# Altium footprint library NSC Audio.PcbLib: 147 footprints (part 8 of 10)
Each footprint in its own frame and in the unit in brackets; x right, y up, seen from the top. Pads: shape width x height; smd on the part's side, far side on the other; paste and mask are expansions set on the pad; w line width, h text height; cw(c..) or ccw(c..) is an arc to the next point about the centre after c.
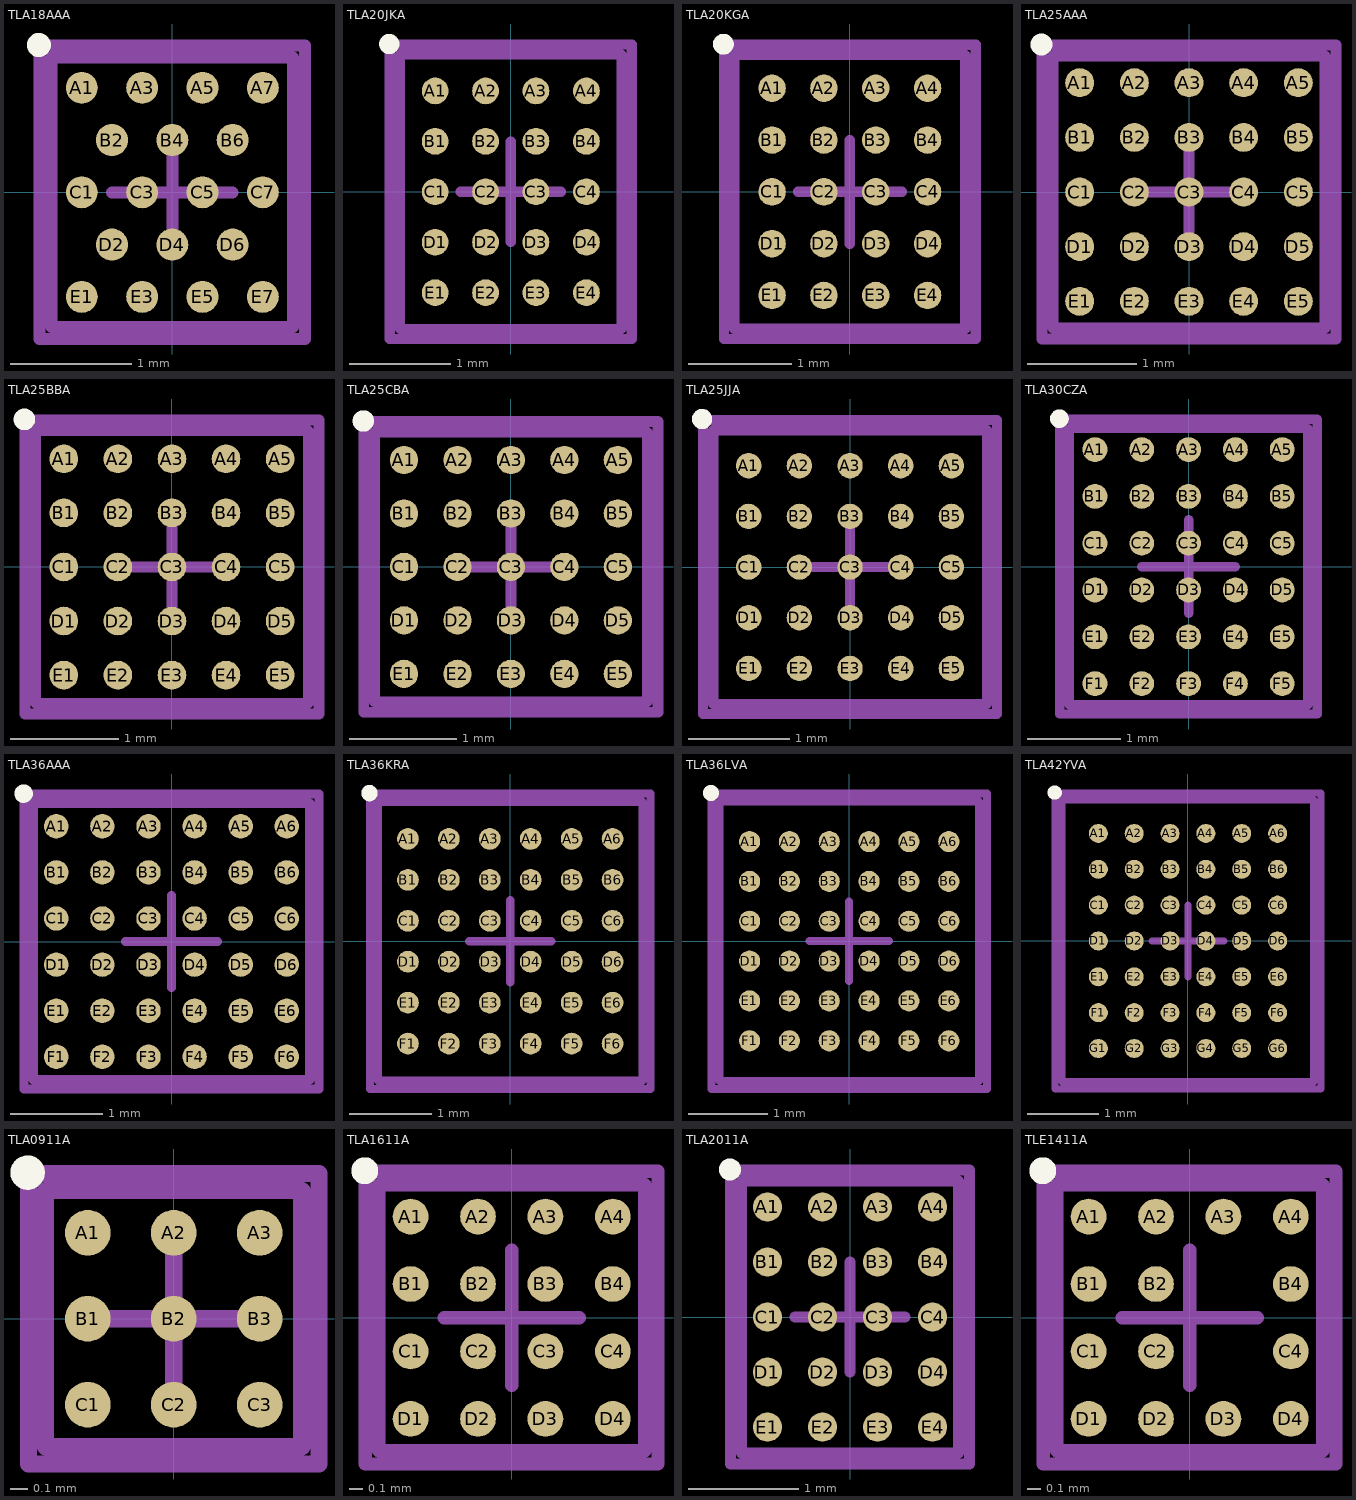
[diagram p7: the footprints below, top view; thin cyan lines are the x and y axes]

## TLA18AAA [mm] "Micro SMD, 18-Leads, Body 2.23x2.0mm, Pitch 0.5mm, NSC Recommended"
height 0.68
pads (18):
  round 0.265 smd paste-0.132 mask+0.05: A1(-0.75,0.866) A3(-0.25,0.866) A5(0.25,0.866) A7(0.75,0.866) B2(-0.5,0.433) B4(0,0.433) B6(0.5,0.433) C1(-0.75,0) C3(-0.25,0) C5(0.25,0) C7(0.75,0) D2(-0.5,-0.433) D4(0,-0.433) D6(0.5,-0.433) E1(-0.75,-0.866) E3(-0.25,-0.866) E5(0.25,-0.866) E7(0.75,-0.866)
Top Overlay:
  circle w0.1: c-1.105,1.22 r0.05
Top Paste:
  drawing of 162 lines, arcs and shapes, not listed
Mechanical 13:
  lines w0.1: -1,-1.115 -1,1.115 1,1.115 1,-1.115 -1,-1.115
Mechanical 15:
  lines w0.1: -0.5,0 0.5,0 ; 0,-0.5 0,0.5 ; -1.1,-1.215 -1.1,1.215 1.1,1.215 1.1,-1.215 -1.1,-1.215
3D body: height 0.68, standoff 0, extent -0.999,-1.114 0.999,1.114

## TLA20JKA [mm] "Micro SMD, 20-Leads, Body 2.72x2.2mm, Pitch 0.5mm, NSC Recommended"
height 0.68
pads (20):
  round 0.265 smd paste-0.132 mask+0.05: A1(-0.75,1) A2(-0.25,1) A3(0.25,1) A4(0.75,1) B1(-0.75,0.5) B2(-0.25,0.5) B3(0.25,0.5) B4(0.75,0.5) C1(-0.75,0) C2(-0.25,0) C3(0.25,0) C4(0.75,0) D1(-0.75,-0.5) D2(-0.25,-0.5) D3(0.25,-0.5) D4(0.75,-0.5) E1(-0.75,-1) E2(-0.25,-1) E3(0.25,-1) E4(0.75,-1)
Top Overlay:
  circle w0.1: c-1.205,1.465 r0.05
Top Paste:
  drawing of 180 lines, arcs and shapes, not listed
Mechanical 13:
  lines w0.1: -1.1,-1.36 -1.1,1.36 1.1,1.36 1.1,-1.36 -1.1,-1.36
Mechanical 15:
  lines w0.1: -0.5,0 0.5,0 ; 0,-0.5 0,0.5 ; -1.2,-1.46 -1.2,1.46 1.2,1.46 1.2,-1.46 -1.2,-1.46
3D body: height 0.68, standoff 0, extent -1.099,-1.359 1.099,1.359

## TLA20KGA [mm] "Micro SMD, 20-Leads, Body 2.64x2.23mm, Pitch 0.5mm, NSC Recommended"
height 0.68
pads (20):
  round 0.265 smd paste-0.132 mask+0.05: A1(-0.75,1) A2(-0.25,1) A3(0.25,1) A4(0.75,1) B1(-0.75,0.5) B2(-0.25,0.5) B3(0.25,0.5) B4(0.75,0.5) C1(-0.75,0) C2(-0.25,0) C3(0.25,0) C4(0.75,0) D1(-0.75,-0.5) D2(-0.25,-0.5) D3(0.25,-0.5) D4(0.75,-0.5) E1(-0.75,-1) E2(-0.25,-1) E3(0.25,-1) E4(0.75,-1)
Top Overlay:
  circle w0.1: c-1.22,1.425 r0.05
Top Paste:
  drawing of 180 lines, arcs and shapes, not listed
Mechanical 13:
  lines w0.1: -1.115,-1.32 1.115,-1.32 1.115,1.32 -1.115,1.32 -1.115,-1.32
Mechanical 15:
  lines w0.1: -0.5,0 0.5,0 ; 0,-0.5 0,0.5 ; -1.215,-1.42 1.215,-1.42 1.215,1.42 -1.215,1.42 -1.215,-1.42
3D body: height 0.68, standoff 0, extent -1.115,-1.325 1.115,1.325

## TLA25AAA [mm] "Micro SMD, 25-Leads, Body 2.49x2.49mm, Pitch 0.5mm, NSC Recommended"
height 0.68
pads (25):
  round 0.265 smd paste-0.132 mask+0.05: A1(-1,1) A2(-0.5,1) A3(0,1) A4(0.5,1) A5(1,1) B1(-1,0.5) B2(-0.5,0.5) B3(0,0.5) B4(0.5,0.5) B5(1,0.5) C1(-1,0) C2(-0.5,0) C3(0,0) C4(0.5,0) C5(1,0) D1(-1,-0.5) D2(-0.5,-0.5) D3(0,-0.5) D4(0.5,-0.5) D5(1,-0.5) E1(-1,-1) E2(-0.5,-1) E3(0,-1) E4(0.5,-1) E5(1,-1)
Top Overlay:
  circle w0.1: c-1.35,1.35 r0.05
Top Paste:
  drawing of 225 lines, arcs and shapes, not listed
Mechanical 13:
  lines w0.1: -1.245,-1.245 -1.245,1.245 1.245,1.245 1.245,-1.245 -1.245,-1.245
Mechanical 15:
  lines w0.1: -0.5,0 0.5,0 ; 0,-0.5 0,0.5 ; -1.345,-1.345 -1.345,1.345 1.345,1.345 1.345,-1.345 -1.345,-1.345
3D body: height 0.68, standoff 0, extent -1.244,-1.244 1.244,1.244

## TLA25BBA [mm] "Micro SMD, 25-Leads, Body 2.52x2.52mm, Pitch 0.5mm, NSC Recommended"
height 0.68
pads (25):
  round 0.265 smd paste-0.132 mask+0.05: A1(-1,1) A2(-0.5,1) A3(0,1) A4(0.5,1) A5(1,1) B1(-1,0.5) B2(-0.5,0.5) B3(0,0.5) B4(0.5,0.5) B5(1,0.5) C1(-1,0) C2(-0.5,0) C3(0,0) C4(0.5,0) C5(1,0) D1(-1,-0.5) D2(-0.5,-0.5) D3(0,-0.5) D4(0.5,-0.5) D5(1,-0.5) E1(-1,-1) E2(-0.5,-1) E3(0,-1) E4(0.5,-1) E5(1,-1)
Top Overlay:
  circle w0.1: c-1.365,1.365 r0.05
Top Paste:
  drawing of 225 lines, arcs and shapes, not listed
Mechanical 13:
  lines w0.1: -1.26,-1.26 1.26,-1.26 1.26,1.26 -1.26,1.26 -1.26,-1.26
Mechanical 15:
  lines w0.1: -0.5,0 0.5,0 ; 0,-0.5 0,0.5 ; -1.36,-1.36 1.36,-1.36 1.36,1.36 -1.36,1.36 -1.36,-1.36
3D body: height 0.68, standoff 0, extent -1.259,-1.259 1.259,1.259

## TLA25CBA [mm] "Micro SMD, 25-Leads, Body 2.52x2.55mm, Pitch 0.5mm, NSC Recommended"
height 0.68
pads (25):
  round 0.265 smd paste-0.132 mask+0.05: A1(-1,1) A2(-0.5,1) A3(0,1) A4(0.5,1) A5(1,1) B1(-1,0.5) B2(-0.5,0.5) B3(0,0.5) B4(0.5,0.5) B5(1,0.5) C1(-1,0) C2(-0.5,0) C3(0,0) C4(0.5,0) C5(1,0) D1(-1,-0.5) D2(-0.5,-0.5) D3(0,-0.5) D4(0.5,-0.5) D5(1,-0.5) E1(-1,-1) E2(-0.5,-1) E3(0,-1) E4(0.5,-1) E5(1,-1)
Top Overlay:
  circle w0.1: c-1.38,1.365 r0.05
Top Paste:
  drawing of 225 lines, arcs and shapes, not listed
Mechanical 13:
  lines w0.1: -1.275,-1.26 -1.275,1.26 1.275,1.26 1.275,-1.26 -1.275,-1.26
Mechanical 15:
  lines w0.1: -0.5,0 0.5,0 ; 0,-0.5 0,0.5 ; -1.375,-1.36 -1.375,1.36 1.375,1.36 1.375,-1.36 -1.375,-1.36
3D body: height 0.68, standoff 0, extent -1.274,-1.259 1.274,1.259

## TLA25JJA [mm] "BGA, 25-Leads, Body 2.69x2.69mm, Pitch 0.5mm"
height 0.6
pads (25):
  round 0.25 smd: A1(-1,1) A2(-0.5,1) A3(0,1) A4(0.5,1) A5(1,1) B1(-1,0.5) B2(-0.5,0.5) B3(0,0.5) B4(0.5,0.5) B5(1,0.5) C1(-1,0) C2(-0.5,0) C3(0,0) C4(0.5,0) C5(1,0) D1(-1,-0.5) D2(-0.5,-0.5) D3(0,-0.5) D4(0.5,-0.5) D5(1,-0.5) E1(-1,-1) E2(-0.5,-1) E3(0,-1) E4(0.5,-1) E5(1,-1)
Top Overlay:
  circle w0.1: c-1.46,1.46 r0.05
Mechanical 13:
  lines w0.1: -1.35,-1.35 1.35,-1.35 1.35,1.35 -1.35,1.35 -1.35,-1.35
Mechanical 15:
  lines w0.1: -0.5,0 0.5,0 ; 0,-0.5 0,0.5 ; -1.45,-1.45 1.45,-1.45 1.45,1.45 -1.45,1.45 -1.45,-1.45
3D body: height 0.6, standoff 0.22, extent -1.35,-1.35 1.35,1.35

## TLA30CZA [mm] "Micro SMD, 30-Leads, Body 2.95x2.55mm, Pitch 0.5mm, NSC Recommended"
height 0.68
pads (30):
  round 0.265 smd paste-0.132 mask+0.05: A1(-1,1.25) A2(-0.5,1.25) A3(0,1.25) A4(0.5,1.25) A5(1,1.25) B1(-1,0.75) B2(-0.5,0.75) B3(0,0.75) B4(0.5,0.75) B5(1,0.75) C1(-1,0.25) C2(-0.5,0.25) C3(0,0.25) C4(0.5,0.25) C5(1,0.25) D1(-1,-0.25) D2(-0.5,-0.25) D3(0,-0.25) D4(0.5,-0.25) D5(1,-0.25) E1(-1,-0.75) E2(-0.5,-0.75) E3(0,-0.75) E4(0.5,-0.75) E5(1,-0.75) F1(-1,-1.25) F2(-0.5,-1.25) F3(0,-1.25) F4(0.5,-1.25) F5(1,-1.25)
Top Overlay:
  circle w0.1: c-1.38,1.58 r0.05
Top Paste:
  drawing of 270 lines, arcs and shapes, not listed
Mechanical 13:
  lines w0.1: -1.275,-1.475 -1.275,1.475 1.275,1.475 1.275,-1.475 -1.275,-1.475
Mechanical 15:
  lines w0.1: -0.5,0 0.5,0 ; 0,-0.5 0,0.5 ; -1.375,-1.575 -1.375,1.575 1.375,1.575 1.375,-1.575 -1.375,-1.575
3D body: height 0.68, standoff 0, extent -1.274,-1.474 1.274,1.474

## TLA36AAA [mm] "Micro SMD, 36-Leads, Body 3x3mm, Pitch 0.5mm, NSC Recommended"
height 0.68
pads (36):
  round 0.265 smd paste-0.132 mask+0.05: A1(-1.25,1.25) A2(-0.75,1.25) A3(-0.25,1.25) A4(0.25,1.25) A5(0.75,1.25) A6(1.25,1.25) B1(-1.25,0.75) B2(-0.75,0.75) B3(-0.25,0.75) B4(0.25,0.75) B5(0.75,0.75) B6(1.25,0.75) C1(-1.25,0.25) C2(-0.75,0.25) C3(-0.25,0.25) C4(0.25,0.25) C5(0.75,0.25) C6(1.25,0.25) D1(-1.25,-0.25) D2(-0.75,-0.25) D3(-0.25,-0.25) D4(0.25,-0.25) D5(0.75,-0.25) D6(1.25,-0.25) E1(-1.25,-0.75) E2(-0.75,-0.75) E3(-0.25,-0.75) E4(0.25,-0.75) E5(0.75,-0.75) E6(1.25,-0.75) F1(-1.25,-1.25) F2(-0.75,-1.25) F3(-0.25,-1.25) F4(0.25,-1.25) F5(0.75,-1.25) F6(1.25,-1.25)
Top Overlay:
  circle w0.1: c-1.605,1.605 r0.05
Top Paste:
  drawing of 324 lines, arcs and shapes, not listed
Mechanical 13:
  lines w0.1: -1.5,-1.5 1.5,-1.5 1.5,1.5 -1.5,1.5 -1.5,-1.5
Mechanical 15:
  lines w0.1: -0.5,0 0.5,0 ; 0,-0.5 0,0.5 ; -1.6,-1.6 1.6,-1.6 1.6,1.6 -1.6,1.6 -1.6,-1.6
3D body: height 0.68, standoff 0, extent -1.499,-1.499 1.499,1.499

## TLA36KRA [mm] "Micro SMD, 36-Leads, Body 3.41x3.23mm, Pitch 0.5mm, NSC Recommended"
height 0.68
pads (36):
  round 0.265 smd paste-0.132 mask+0.05: A1(-1.25,1.25) A2(-0.75,1.25) A3(-0.25,1.25) A4(0.25,1.25) A5(0.75,1.25) A6(1.25,1.25) B1(-1.25,0.75) B2(-0.75,0.75) B3(-0.25,0.75) B4(0.25,0.75) B5(0.75,0.75) B6(1.25,0.75) C1(-1.25,0.25) C2(-0.75,0.25) C3(-0.25,0.25) C4(0.25,0.25) C5(0.75,0.25) C6(1.25,0.25) D1(-1.25,-0.25) D2(-0.75,-0.25) D3(-0.25,-0.25) D4(0.25,-0.25) D5(0.75,-0.25) D6(1.25,-0.25) E1(-1.25,-0.75) E2(-0.75,-0.75) E3(-0.25,-0.75) E4(0.25,-0.75) E5(0.75,-0.75) E6(1.25,-0.75) F1(-1.25,-1.25) F2(-0.75,-1.25) F3(-0.25,-1.25) F4(0.25,-1.25) F5(0.75,-1.25) F6(1.25,-1.25)
Top Overlay:
  circle w0.1: c-1.72,1.81 r0.05
Top Paste:
  drawing of 324 lines, arcs and shapes, not listed
Mechanical 13:
  lines w0.1: -1.615,-1.705 1.615,-1.705 1.615,1.705 -1.615,1.705 -1.615,-1.705
Mechanical 15:
  lines w0.1: -0.5,0 0.5,0 ; 0,-0.5 0,0.5 ; -1.715,-1.805 1.715,-1.805 1.715,1.805 -1.715,1.805 -1.715,-1.805
3D body: height 0.68, standoff 0, extent -1.614,-1.704 1.614,1.704

## TLA36LVA [mm] "Micro SMD, 36-Leads, Body 3.51x3.26mm, Pitch 0.5mm, NSC Recommended"
height 0.68
pads (36):
  round 0.265 smd paste-0.132 mask+0.05: A1(-1.25,1.25) A2(-0.75,1.25) A3(-0.25,1.25) A4(0.25,1.25) A5(0.75,1.25) A6(1.25,1.25) B1(-1.25,0.75) B2(-0.75,0.75) B3(-0.25,0.75) B4(0.25,0.75) B5(0.75,0.75) B6(1.25,0.75) C1(-1.25,0.25) C2(-0.75,0.25) C3(-0.25,0.25) C4(0.25,0.25) C5(0.75,0.25) C6(1.25,0.25) D1(-1.25,-0.25) D2(-0.75,-0.25) D3(-0.25,-0.25) D4(0.25,-0.25) D5(0.75,-0.25) D6(1.25,-0.25) E1(-1.25,-0.75) E2(-0.75,-0.75) E3(-0.25,-0.75) E4(0.25,-0.75) E5(0.75,-0.75) E6(1.25,-0.75) F1(-1.25,-1.25) F2(-0.75,-1.25) F3(-0.25,-1.25) F4(0.25,-1.25) F5(0.75,-1.25) F6(1.25,-1.25)
Top Overlay:
  circle w0.1: c-1.735,1.86 r0.05
Top Paste:
  drawing of 324 lines, arcs and shapes, not listed
Mechanical 13:
  lines w0.1: -1.63,-1.755 1.63,-1.755 1.63,1.755 -1.63,1.755 -1.63,-1.755
Mechanical 15:
  lines w0.1: -0.5,0 0.5,0 ; 0,-0.5 0,0.5 ; -1.73,-1.855 1.73,-1.855 1.73,1.855 -1.73,1.855 -1.73,-1.855
3D body: height 0.68, standoff 0, extent -1.629,-1.754 1.629,1.754

## TLA42YVA [mm] "Micro SMD, 42-Leads, Body 3.93x3.51mm, Pitch 0.5mm, NSC Recommended"
height 0.68
pads (42):
  round 0.265 smd paste-0.132 mask+0.05: A1(-1.25,1.5) A2(-0.75,1.5) A3(-0.25,1.5) A4(0.25,1.5) A5(0.75,1.5) A6(1.25,1.5) B1(-1.25,1) B2(-0.75,1) B3(-0.25,1) B4(0.25,1) B5(0.75,1) B6(1.25,1) C1(-1.25,0.5) C2(-0.75,0.5) C3(-0.25,0.5) C4(0.25,0.5) C5(0.75,0.5) C6(1.25,0.5) D1(-1.25,0) D2(-0.75,0) D3(-0.25,0) D4(0.25,0) D5(0.75,0) D6(1.25,0) E1(-1.25,-0.5) E2(-0.75,-0.5) E3(-0.25,-0.5) E4(0.25,-0.5) E5(0.75,-0.5) E6(1.25,-0.5) F1(-1.25,-1) F2(-0.75,-1) F3(-0.25,-1) F4(0.25,-1) F5(0.75,-1) F6(1.25,-1) G1(-1.25,-1.5) G2(-0.75,-1.5) G3(-0.25,-1.5) G4(0.25,-1.5) G5(0.75,-1.5) G6(1.25,-1.5)
Top Overlay:
  circle w0.1: c-1.86,2.07 r0.05
Top Paste:
  drawing of 378 lines, arcs and shapes, not listed
Mechanical 13:
  lines w0.1: -1.755,-1.965 1.755,-1.965 1.755,1.965 -1.755,1.965 -1.755,-1.965
Mechanical 15:
  lines w0.1: -0.5,0 0.5,0 ; 0,-0.5 0,0.5 ; -1.855,-2.065 1.855,-2.065 1.855,2.065 -1.855,2.065 -1.855,-2.065
3D body: height 0.68, standoff 0, extent -1.754,-1.964 1.754,1.964

## TLA0911A [mm] "Micro SMD, 9-Leads, Body 1.49x1.49mm, Pitch 0.5mm, NSC Recommended"
height 0.68
pads (9):
  round 0.265 smd paste-0.132 mask+0.05: A1(-0.5,0.5) A2(0,0.5) A3(0.5,0.5) B1(-0.5,0) B2(0,0) B3(0.5,0) C1(-0.5,-0.5) C2(0,-0.5) C3(0.5,-0.5)
Top Overlay:
  circle w0.1: c-0.85,0.85 r0.05
Top Paste:
  circle w0.05: c-0.6,-0.075 r0.025
  circle w0.05: c-0.45,0.075 r0.025
  circle w0.05: c-0.6,0.075 r0.025
  circle w0.05: c-0.45,-0.075 r0.025
  circle w0.05: c-0.075,0.6 r0.025
  circle w0.05: c0.075,0.45 r0.025
  circle w0.05: c0.075,0.6 r0.025
  circle w0.05: c-0.075,0.45 r0.025
  circle w0.05: c0.6,0.075 r0.025
  circle w0.05: c0.45,-0.075 r0.025
  circle w0.05: c0.6,-0.075 r0.025
  circle w0.05: c0.45,0.075 r0.025
  circle w0.05: c0.075,-0.6 r0.025
  circle w0.05: c-0.075,-0.45 r0.025
  circle w0.05: c-0.075,-0.6 r0.025
  circle w0.05: c0.075,-0.45 r0.025
  circle w0.05: c0.45,0.45 r0.025
  circle w0.05: c0.6,0.6 r0.025
  circle w0.05: c0.6,0.45 r0.025
  circle w0.05: c0.45,0.6 r0.025
  circle w0.05: c-0.45,0.45 r0.025
  circle w0.05: c-0.6,0.6 r0.025
  circle w0.05: c-0.45,0.6 r0.025
  circle w0.05: c-0.6,0.45 r0.025
  circle w0.05: c-0.45,-0.45 r0.025
  circle w0.05: c-0.6,-0.6 r0.025
  circle w0.05: c-0.6,-0.45 r0.025
  circle w0.05: c-0.45,-0.6 r0.025
  circle w0.05: c0.45,-0.45 r0.025
  circle w0.05: c0.6,-0.6 r0.025
  circle w0.05: c0.45,-0.6 r0.025
  circle w0.05: c0.6,-0.45 r0.025
  circle w0.05: c0.075,-0.075 r0.025
  circle w0.05: c-0.075,0.075 r0.025
  circle w0.05: c-0.075,-0.075 r0.025
  circle w0.05: c0.075,0.075 r0.025
  region: -0.45,0.075 -0.45,-0.075 -0.4,-0.075 -0.4,0.075
  rectangle: -0.6,0.075 -0.45,0.125
  region: -0.6,-0.075 -0.6,0.075 -0.65,0.075 -0.65,-0.075
  region: -0.45,-0.075 -0.6,-0.075 -0.6,-0.125 -0.45,-0.125
  rectangle: -0.6,-0.075 -0.45,0.075
  region: 0.075,0.45 -0.075,0.45 -0.075,0.4 0.075,0.4
  region: 0.075,0.6 0.075,0.45 0.125,0.45 0.125,0.6
  rectangle: -0.075,0.6 0.075,0.65
  region: -0.075,0.45 -0.075,0.6 -0.125,0.6 -0.125,0.45
  region: -0.075,0.6 -0.075,0.45 0.075,0.45 0.075,0.6
  region: 0.45,-0.075 0.45,0.075 0.4,0.075 0.4,-0.075
  region: 0.6,-0.075 0.45,-0.075 0.45,-0.125 0.6,-0.125
  region: 0.6,0.075 0.6,-0.075 0.65,-0.075 0.65,0.075
  rectangle: 0.45,0.075 0.6,0.125
  region: 0.6,0.075 0.45,0.075 0.45,-0.075 0.6,-0.075
  rectangle: -0.075,-0.45 0.075,-0.4
  region: -0.075,-0.6 -0.075,-0.45 -0.125,-0.45 -0.125,-0.6
  region: 0.075,-0.6 -0.075,-0.6 -0.075,-0.65 0.075,-0.65
  region: 0.075,-0.45 0.075,-0.6 0.125,-0.6 0.125,-0.45
  region: 0.075,-0.6 0.075,-0.45 -0.075,-0.45 -0.075,-0.6
  region: 0.45,0.6 0.45,0.45 0.6,0.45 0.6,0.6
  region: 0.45,0.45 0.45,0.6 0.4,0.6 0.4,0.45
  rectangle: 0.45,0.6 0.6,0.65
  region: 0.6,0.6 0.6,0.45 0.65,0.45 0.65,0.6
  region: 0.6,0.45 0.45,0.45 0.45,0.4 0.6,0.4
  rectangle: -0.6,0.45 -0.45,0.6
  region: -0.45,0.45 -0.6,0.45 -0.6,0.4 -0.45,0.4
  region: -0.6,0.45 -0.6,0.6 -0.65,0.6 -0.65,0.45
  rectangle: -0.6,0.6 -0.45,0.65
  region: -0.45,0.6 -0.45,0.45 -0.4,0.45 -0.4,0.6
  region: -0.45,-0.6 -0.45,-0.45 -0.6,-0.45 -0.6,-0.6
  region: -0.45,-0.45 -0.45,-0.6 -0.4,-0.6 -0.4,-0.45
  region: -0.45,-0.6 -0.6,-0.6 -0.6,-0.65 -0.45,-0.65
  region: -0.6,-0.6 -0.6,-0.45 -0.65,-0.45 -0.65,-0.6
  rectangle: -0.6,-0.45 -0.45,-0.4
  region: 0.6,-0.45 0.45,-0.45 0.45,-0.6 0.6,-0.6
  rectangle: 0.45,-0.45 0.6,-0.4
  region: 0.6,-0.45 0.6,-0.6 0.65,-0.6 0.65,-0.45
  region: 0.6,-0.6 0.45,-0.6 0.45,-0.65 0.6,-0.65
  region: 0.45,-0.6 0.45,-0.45 0.4,-0.45 0.4,-0.6
  region: -0.075,0.075 -0.075,-0.075 0.075,-0.075 0.075,0.075
  region: 0.125,-0.075 0.125,0.075 0.075,0.075 0.075,-0.075
  region: 0.075,0.125 -0.075,0.125 -0.075,0.075 0.075,0.075
  region: -0.125,0.075 -0.125,-0.075 -0.075,-0.075 -0.075,0.075
  rectangle: -0.075,-0.125 0.075,-0.075
Mechanical 13:
  lines w0.1: -0.745,-0.745 0.745,-0.745 0.745,0.745 -0.745,0.745 -0.745,-0.745
Mechanical 15:
  lines w0.1: -0.5,0 0.5,0 ; 0,-0.5 0,0.5 ; -0.845,-0.845 0.845,-0.845 0.845,0.845 -0.845,0.845 -0.845,-0.845
3D body: height 0.68, standoff 0, extent -0.744,-0.744 0.744,0.744

## TLA1611A [mm] "Micro SMD, 16-Leads, Body 1.97x1.97mm, Pitch 0.5mm, NSC Recommended"
height 0.68
pads (16):
  round 0.265 smd paste-0.132 mask+0.05: A1(-0.75,0.75) A2(-0.25,0.75) A3(0.25,0.75) A4(0.75,0.75) B1(-0.75,0.25) B2(-0.25,0.25) B3(0.25,0.25) B4(0.75,0.25) C1(-0.75,-0.25) C2(-0.25,-0.25) C3(0.25,-0.25) C4(0.75,-0.25) D1(-0.75,-0.75) D2(-0.25,-0.75) D3(0.25,-0.75) D4(0.75,-0.75)
Top Overlay:
  circle w0.1: c-1.09,1.09 r0.05
Top Paste:
  circle w0.05: c0.85,-0.7 r0.025
  circle w0.05: c0.7,-0.85 r0.025
  circle w0.05: c0.85,-0.85 r0.025
  circle w0.05: c0.7,-0.7 r0.025
  circle w0.05: c-0.7,-0.85 r0.025
  circle w0.05: c-0.85,-0.7 r0.025
  circle w0.05: c-0.85,-0.85 r0.025
  circle w0.05: c-0.7,-0.7 r0.025
  circle w0.05: c-0.85,0.7 r0.025
  circle w0.05: c-0.7,0.85 r0.025
  circle w0.05: c-0.85,0.85 r0.025
  circle w0.05: c-0.7,0.7 r0.025
  circle w0.05: c0.7,0.85 r0.025
  circle w0.05: c0.85,0.7 r0.025
  circle w0.05: c0.85,0.85 r0.025
  circle w0.05: c0.7,0.7 r0.025
  circle w0.05: c-0.175,-0.7 r0.025
  circle w0.05: c-0.325,-0.85 r0.025
  circle w0.05: c-0.325,-0.7 r0.025
  circle w0.05: c-0.175,-0.85 r0.025
  circle w0.05: c0.325,-0.7 r0.025
  circle w0.05: c0.175,-0.85 r0.025
  circle w0.05: c0.175,-0.7 r0.025
  circle w0.05: c0.325,-0.85 r0.025
  circle w0.05: c0.7,-0.175 r0.025
  circle w0.05: c0.85,-0.325 r0.025
  circle w0.05: c0.7,-0.325 r0.025
  circle w0.05: c0.85,-0.175 r0.025
  circle w0.05: c0.7,0.325 r0.025
  circle w0.05: c0.85,0.175 r0.025
  circle w0.05: c0.7,0.175 r0.025
  circle w0.05: c0.85,0.325 r0.025
  circle w0.05: c0.175,0.7 r0.025
  circle w0.05: c0.325,0.85 r0.025
  circle w0.05: c0.325,0.7 r0.025
  circle w0.05: c0.175,0.85 r0.025
  circle w0.05: c-0.325,0.7 r0.025
  circle w0.05: c-0.175,0.85 r0.025
  circle w0.05: c-0.175,0.7 r0.025
  circle w0.05: c-0.325,0.85 r0.025
  circle w0.05: c-0.7,0.175 r0.025
  circle w0.05: c-0.85,0.325 r0.025
  circle w0.05: c-0.7,0.325 r0.025
  circle w0.05: c-0.85,0.175 r0.025
  circle w0.05: c-0.7,-0.325 r0.025
  circle w0.05: c-0.85,-0.175 r0.025
  circle w0.05: c-0.7,-0.175 r0.025
  circle w0.05: c-0.85,-0.325 r0.025
  circle w0.05: c-0.175,0.175 r0.025
  circle w0.05: c-0.325,0.325 r0.025
  circle w0.05: c-0.325,0.175 r0.025
  circle w0.05: c-0.175,0.325 r0.025
  circle w0.05: c-0.175,-0.325 r0.025
  circle w0.05: c-0.325,-0.175 r0.025
  circle w0.05: c-0.325,-0.325 r0.025
  circle w0.05: c-0.175,-0.175 r0.025
  circle w0.05: c0.325,-0.325 r0.025
  circle w0.05: c0.175,-0.175 r0.025
  circle w0.05: c0.175,-0.325 r0.025
  circle w0.05: c0.325,-0.175 r0.025
  circle w0.05: c0.325,0.175 r0.025
  circle w0.05: c0.175,0.325 r0.025
  circle w0.05: c0.175,0.175 r0.025
  circle w0.05: c0.325,0.325 r0.025
  region: 0.7,-0.85 0.7,-0.7 0.65,-0.7 0.65,-0.85
  region: 0.85,-0.85 0.7,-0.85 0.7,-0.9 0.85,-0.9
  region: 0.85,-0.7 0.85,-0.85 0.9,-0.85 0.9,-0.7
  rectangle: 0.7,-0.7 0.85,-0.65
  region: 0.85,-0.7 0.7,-0.7 0.7,-0.85 0.85,-0.85
  rectangle: -0.85,-0.7 -0.7,-0.65
  region: -0.85,-0.85 -0.85,-0.7 -0.9,-0.7 -0.9,-0.85
  region: -0.7,-0.85 -0.85,-0.85 -0.85,-0.9 -0.7,-0.9
  region: -0.7,-0.7 -0.7,-0.85 -0.65,-0.85 -0.65,-0.7
  region: -0.7,-0.85 -0.7,-0.7 -0.85,-0.7 -0.85,-0.85
  region: -0.7,0.85 -0.7,0.7 -0.65,0.7 -0.65,0.85
  rectangle: -0.85,0.85 -0.7,0.9
  region: -0.85,0.7 -0.85,0.85 -0.9,0.85 -0.9,0.7
  region: -0.7,0.7 -0.85,0.7 -0.85,0.65 -0.7,0.65
  rectangle: -0.85,0.7 -0.7,0.85
  region: 0.85,0.7 0.7,0.7 0.7,0.65 0.85,0.65
  region: 0.85,0.85 0.85,0.7 0.9,0.7 0.9,0.85
  rectangle: 0.7,0.85 0.85,0.9
  region: 0.7,0.7 0.7,0.85 0.65,0.85 0.65,0.7
  region: 0.7,0.85 0.7,0.7 0.85,0.7 0.85,0.85
  region: -0.175,-0.85 -0.175,-0.7 -0.325,-0.7 -0.325,-0.85
  region: -0.175,-0.7 -0.175,-0.85 -0.125,-0.85 -0.125,-0.7
  region: -0.175,-0.85 -0.325,-0.85 -0.325,-0.9 -0.175,-0.9
  region: -0.325,-0.85 -0.325,-0.7 -0.375,-0.7 -0.375,-0.85
  rectangle: -0.325,-0.7 -0.175,-0.65
  region: 0.325,-0.85 0.325,-0.7 0.175,-0.7 0.175,-0.85
  region: 0.325,-0.7 0.325,-0.85 0.375,-0.85 0.375,-0.7
  region: 0.325,-0.85 0.175,-0.85 0.175,-0.9 0.325,-0.9
  region: 0.175,-0.85 0.175,-0.7 0.125,-0.7 0.125,-0.85
  rectangle: 0.175,-0.7 0.325,-0.65
  region: 0.85,-0.175 0.7,-0.175 0.7,-0.325 0.85,-0.325
  rectangle: 0.7,-0.175 0.85,-0.125
  region: 0.85,-0.175 0.85,-0.325 0.9,-0.325 0.9,-0.175
  region: 0.85,-0.325 0.7,-0.325 0.7,-0.375 0.85,-0.375
  region: 0.7,-0.325 0.7,-0.175 0.65,-0.175 0.65,-0.325
  region: 0.85,0.325 0.7,0.325 0.7,0.175 0.85,0.175
  rectangle: 0.7,0.325 0.85,0.375
  region: 0.85,0.325 0.85,0.175 0.9,0.175 0.9,0.325
  region: 0.85,0.175 0.7,0.175 0.7,0.125 0.85,0.125
  region: 0.7,0.175 0.7,0.325 0.65,0.325 0.65,0.175
  region: 0.175,0.85 0.175,0.7 0.325,0.7 0.325,0.85
  region: 0.175,0.7 0.175,0.85 0.125,0.85 0.125,0.7
  rectangle: 0.175,0.85 0.325,0.9
  region: 0.325,0.85 0.325,0.7 0.375,0.7 0.375,0.85
  region: 0.325,0.7 0.175,0.7 0.175,0.65 0.325,0.65
  region: -0.325,0.85 -0.325,0.7 -0.175,0.7 -0.175,0.85
  region: -0.325,0.7 -0.325,0.85 -0.375,0.85 -0.375,0.7
  rectangle: -0.325,0.85 -0.175,0.9
  region: -0.175,0.85 -0.175,0.7 -0.125,0.7 -0.125,0.85
  region: -0.175,0.7 -0.325,0.7 -0.325,0.65 -0.175,0.65
  rectangle: -0.85,0.175 -0.7,0.325
  region: -0.7,0.175 -0.85,0.175 -0.85,0.125 -0.7,0.125
  region: -0.85,0.175 -0.85,0.325 -0.9,0.325 -0.9,0.175
  rectangle: -0.85,0.325 -0.7,0.375
  region: -0.7,0.325 -0.7,0.175 -0.65,0.175 -0.65,0.325
  rectangle: -0.85,-0.325 -0.7,-0.175
  region: -0.7,-0.325 -0.85,-0.325 -0.85,-0.375 -0.7,-0.375
  region: -0.85,-0.325 -0.85,-0.175 -0.9,-0.175 -0.9,-0.325
  rectangle: -0.85,-0.175 -0.7,-0.125
  region: -0.7,-0.175 -0.7,-0.325 -0.65,-0.325 -0.65,-0.175
  region: -0.325,0.325 -0.325,0.175 -0.175,0.175 -0.175,0.325
  region: -0.125,0.175 -0.125,0.325 -0.175,0.325 -0.175,0.175
  region: -0.175,0.375 -0.325,0.375 -0.325,0.325 -0.175,0.325
  region: -0.375,0.325 -0.375,0.175 -0.325,0.175 -0.325,0.325
  rectangle: -0.325,0.125 -0.175,0.175
  region: -0.325,-0.175 -0.325,-0.325 -0.175,-0.325 -0.175,-0.175
  region: -0.125,-0.325 -0.125,-0.175 -0.175,-0.175 -0.175,-0.325
  region: -0.175,-0.125 -0.325,-0.125 -0.325,-0.175 -0.175,-0.175
  region: -0.375,-0.175 -0.375,-0.325 -0.325,-0.325 -0.325,-0.175
  rectangle: -0.325,-0.375 -0.175,-0.325
  region: 0.175,-0.175 0.175,-0.325 0.325,-0.325 0.325,-0.175
  region: 0.375,-0.325 0.375,-0.175 0.325,-0.175 0.325,-0.325
  region: 0.325,-0.125 0.175,-0.125 0.175,-0.175 0.325,-0.175
  region: 0.125,-0.175 0.125,-0.325 0.175,-0.325 0.175,-0.175
  rectangle: 0.175,-0.375 0.325,-0.325
  region: 0.175,0.325 0.175,0.175 0.325,0.175 0.325,0.325
  region: 0.375,0.175 0.375,0.325 0.325,0.325 0.325,0.175
  region: 0.325,0.375 0.175,0.375 0.175,0.325 0.325,0.325
  region: 0.125,0.325 0.125,0.175 0.175,0.175 0.175,0.325
  rectangle: 0.175,0.125 0.325,0.175
Mechanical 13:
  lines w0.1: -0.985,-0.985 -0.985,0.985 0.985,0.985 0.985,-0.985 -0.985,-0.985
Mechanical 15:
  lines w0.1: -0.5,0 0.5,0 ; 0,-0.5 0,0.5 ; -1.085,-1.085 -1.085,1.085 1.085,1.085 1.085,-1.085 -1.085,-1.085
3D body: height 0.68, standoff 0, extent -0.984,-0.984 0.984,0.984

## TLA2011A [mm] "Micro SMD, 20-Leads, Body 2.47x1.97mm, Pitch 0.5mm, NSC Recommended"
height 0.68
pads (20):
  round 0.265 smd paste-0.132 mask+0.05: A1(-0.75,1) A2(-0.25,1) A3(0.25,1) A4(0.75,1) B1(-0.75,0.5) B2(-0.25,0.5) B3(0.25,0.5) B4(0.75,0.5) C1(-0.75,0) C2(-0.25,0) C3(0.25,0) C4(0.75,0) D1(-0.75,-0.5) D2(-0.25,-0.5) D3(0.25,-0.5) D4(0.75,-0.5) E1(-0.75,-1) E2(-0.25,-1) E3(0.25,-1) E4(0.75,-1)
Top Overlay:
  circle w0.1: c-1.09,1.34 r0.05
Top Paste:
  drawing of 180 lines, arcs and shapes, not listed
Mechanical 13:
  lines w0.1: -0.985,-1.235 -0.985,1.235 0.985,1.235 0.985,-1.235 -0.985,-1.235
Mechanical 15:
  lines w0.1: -0.5,0 0.5,0 ; 0,-0.5 0,0.5 ; -1.085,-1.335 -1.085,1.335 1.085,1.335 1.085,-1.335 -1.085,-1.335
3D body: height 0.68, standoff 0, extent -0.984,-1.234 0.984,1.234

## TLE1411A [mm] "Micro SMD, 14-Leads, Body 1.97x1.97mm, Pitch 0.5mm, NSC Recommended"
height 0.68
pads (14):
  round 0.265 smd paste-0.132 mask+0.05: A1(-0.75,0.75) A2(-0.25,0.75) A3(0.25,0.75) A4(0.75,0.75) B1(-0.75,0.25) B2(-0.25,0.25) B4(0.75,0.25) C1(-0.75,-0.25) C2(-0.25,-0.25) C4(0.75,-0.25) D1(-0.75,-0.75) D2(-0.25,-0.75) D3(0.25,-0.75) D4(0.75,-0.75)
Top Overlay:
  circle w0.1: c-1.09,1.09 r0.05
Top Paste:
  circle w0.05: c-0.175,-0.175 r0.025
  circle w0.05: c-0.325,-0.325 r0.025
  circle w0.05: c-0.325,-0.175 r0.025
  circle w0.05: c-0.175,-0.325 r0.025
  circle w0.05: c-0.175,0.325 r0.025
  circle w0.05: c-0.325,0.175 r0.025
  circle w0.05: c-0.325,0.325 r0.025
  circle w0.05: c-0.175,0.175 r0.025
  circle w0.05: c0.325,-0.85 r0.025
  circle w0.05: c0.175,-0.7 r0.025
  circle w0.05: c0.175,-0.85 r0.025
  circle w0.05: c0.325,-0.7 r0.025
  circle w0.05: c-0.175,-0.85 r0.025
  circle w0.05: c-0.325,-0.7 r0.025
  circle w0.05: c-0.325,-0.85 r0.025
  circle w0.05: c-0.175,-0.7 r0.025
  circle w0.05: c-0.85,-0.325 r0.025
  circle w0.05: c-0.7,-0.175 r0.025
  circle w0.05: c-0.85,-0.175 r0.025
  circle w0.05: c-0.7,-0.325 r0.025
  circle w0.05: c-0.85,0.175 r0.025
  circle w0.05: c-0.7,0.325 r0.025
  circle w0.05: c-0.85,0.325 r0.025
  circle w0.05: c-0.7,0.175 r0.025
  circle w0.05: c-0.325,0.85 r0.025
  circle w0.05: c-0.175,0.7 r0.025
  circle w0.05: c-0.175,0.85 r0.025
  circle w0.05: c-0.325,0.7 r0.025
  circle w0.05: c0.175,0.85 r0.025
  circle w0.05: c0.325,0.7 r0.025
  circle w0.05: c0.325,0.85 r0.025
  circle w0.05: c0.175,0.7 r0.025
  circle w0.05: c0.85,0.325 r0.025
  circle w0.05: c0.7,0.175 r0.025
  circle w0.05: c0.85,0.175 r0.025
  circle w0.05: c0.7,0.325 r0.025
  circle w0.05: c0.85,-0.175 r0.025
  circle w0.05: c0.7,-0.325 r0.025
  circle w0.05: c0.85,-0.325 r0.025
  circle w0.05: c0.7,-0.175 r0.025
  circle w0.05: c-0.7,0.7 r0.025
  circle w0.05: c-0.85,0.85 r0.025
  circle w0.05: c-0.7,0.85 r0.025
  circle w0.05: c-0.85,0.7 r0.025
  circle w0.05: c-0.7,-0.7 r0.025
  circle w0.05: c-0.85,-0.85 r0.025
  circle w0.05: c-0.85,-0.7 r0.025
  circle w0.05: c-0.7,-0.85 r0.025
  circle w0.05: c0.7,-0.7 r0.025
  circle w0.05: c0.85,-0.85 r0.025
  circle w0.05: c0.7,-0.85 r0.025
  circle w0.05: c0.85,-0.7 r0.025
  circle w0.05: c0.7,0.7 r0.025
  circle w0.05: c0.85,0.85 r0.025
  circle w0.05: c0.85,0.7 r0.025
  circle w0.05: c0.7,0.85 r0.025
  rectangle: -0.325,-0.375 -0.175,-0.325
  region: -0.375,-0.175 -0.375,-0.325 -0.325,-0.325 -0.325,-0.175
  region: -0.175,-0.125 -0.325,-0.125 -0.325,-0.175 -0.175,-0.175
  region: -0.125,-0.325 -0.125,-0.175 -0.175,-0.175 -0.175,-0.325
  region: -0.325,-0.175 -0.325,-0.325 -0.175,-0.325 -0.175,-0.175
  rectangle: -0.325,0.125 -0.175,0.175
  region: -0.375,0.325 -0.375,0.175 -0.325,0.175 -0.325,0.325
  region: -0.175,0.375 -0.325,0.375 -0.325,0.325 -0.175,0.325
  region: -0.125,0.175 -0.125,0.325 -0.175,0.325 -0.175,0.175
  region: -0.325,0.325 -0.325,0.175 -0.175,0.175 -0.175,0.325
  rectangle: 0.175,-0.7 0.325,-0.65
  region: 0.175,-0.85 0.175,-0.7 0.125,-0.7 0.125,-0.85
  region: 0.325,-0.85 0.175,-0.85 0.175,-0.9 0.325,-0.9
  region: 0.325,-0.7 0.325,-0.85 0.375,-0.85 0.375,-0.7
  region: 0.325,-0.85 0.325,-0.7 0.175,-0.7 0.175,-0.85
  rectangle: -0.325,-0.7 -0.175,-0.65
  region: -0.325,-0.85 -0.325,-0.7 -0.375,-0.7 -0.375,-0.85
  region: -0.175,-0.85 -0.325,-0.85 -0.325,-0.9 -0.175,-0.9
  region: -0.175,-0.7 -0.175,-0.85 -0.125,-0.85 -0.125,-0.7
  region: -0.175,-0.85 -0.175,-0.7 -0.325,-0.7 -0.325,-0.85
  region: -0.7,-0.175 -0.7,-0.325 -0.65,-0.325 -0.65,-0.175
  rectangle: -0.85,-0.175 -0.7,-0.125
  region: -0.85,-0.325 -0.85,-0.175 -0.9,-0.175 -0.9,-0.325
  region: -0.7,-0.325 -0.85,-0.325 -0.85,-0.375 -0.7,-0.375
  rectangle: -0.85,-0.325 -0.7,-0.175
  region: -0.7,0.325 -0.7,0.175 -0.65,0.175 -0.65,0.325
  rectangle: -0.85,0.325 -0.7,0.375
  region: -0.85,0.175 -0.85,0.325 -0.9,0.325 -0.9,0.175
  region: -0.7,0.175 -0.85,0.175 -0.85,0.125 -0.7,0.125
  rectangle: -0.85,0.175 -0.7,0.325
  region: -0.175,0.7 -0.325,0.7 -0.325,0.65 -0.175,0.65
  region: -0.175,0.85 -0.175,0.7 -0.125,0.7 -0.125,0.85
  rectangle: -0.325,0.85 -0.175,0.9
  region: -0.325,0.7 -0.325,0.85 -0.375,0.85 -0.375,0.7
  region: -0.325,0.85 -0.325,0.7 -0.175,0.7 -0.175,0.85
  region: 0.325,0.7 0.175,0.7 0.175,0.65 0.325,0.65
  region: 0.325,0.85 0.325,0.7 0.375,0.7 0.375,0.85
  rectangle: 0.175,0.85 0.325,0.9
  region: 0.175,0.7 0.175,0.85 0.125,0.85 0.125,0.7
  region: 0.175,0.85 0.175,0.7 0.325,0.7 0.325,0.85
  region: 0.7,0.175 0.7,0.325 0.65,0.325 0.65,0.175
  region: 0.85,0.175 0.7,0.175 0.7,0.125 0.85,0.125
  region: 0.85,0.325 0.85,0.175 0.9,0.175 0.9,0.325
  rectangle: 0.7,0.325 0.85,0.375
  region: 0.85,0.325 0.7,0.325 0.7,0.175 0.85,0.175
  region: 0.7,-0.325 0.7,-0.175 0.65,-0.175 0.65,-0.325
  region: 0.85,-0.325 0.7,-0.325 0.7,-0.375 0.85,-0.375
  region: 0.85,-0.175 0.85,-0.325 0.9,-0.325 0.9,-0.175
  rectangle: 0.7,-0.175 0.85,-0.125
  region: 0.85,-0.175 0.7,-0.175 0.7,-0.325 0.85,-0.325
  rectangle: -0.85,0.7 -0.7,0.85
  region: -0.7,0.7 -0.85,0.7 -0.85,0.65 -0.7,0.65
  region: -0.85,0.7 -0.85,0.85 -0.9,0.85 -0.9,0.7
  rectangle: -0.85,0.85 -0.7,0.9
  region: -0.7,0.85 -0.7,0.7 -0.65,0.7 -0.65,0.85
  region: -0.7,-0.85 -0.7,-0.7 -0.85,-0.7 -0.85,-0.85
  region: -0.7,-0.7 -0.7,-0.85 -0.65,-0.85 -0.65,-0.7
  region: -0.7,-0.85 -0.85,-0.85 -0.85,-0.9 -0.7,-0.9
  region: -0.85,-0.85 -0.85,-0.7 -0.9,-0.7 -0.9,-0.85
  rectangle: -0.85,-0.7 -0.7,-0.65
  region: 0.85,-0.7 0.7,-0.7 0.7,-0.85 0.85,-0.85
  rectangle: 0.7,-0.7 0.85,-0.65
  region: 0.85,-0.7 0.85,-0.85 0.9,-0.85 0.9,-0.7
  region: 0.85,-0.85 0.7,-0.85 0.7,-0.9 0.85,-0.9
  region: 0.7,-0.85 0.7,-0.7 0.65,-0.7 0.65,-0.85
  region: 0.7,0.85 0.7,0.7 0.85,0.7 0.85,0.85
  region: 0.7,0.7 0.7,0.85 0.65,0.85 0.65,0.7
  rectangle: 0.7,0.85 0.85,0.9
  region: 0.85,0.85 0.85,0.7 0.9,0.7 0.9,0.85
  region: 0.85,0.7 0.7,0.7 0.7,0.65 0.85,0.65
Mechanical 13:
  lines w0.1: -0.985,-0.985 -0.985,0.985 0.985,0.985 0.985,-0.985 -0.985,-0.985
Mechanical 15:
  lines w0.1: -0.5,0 0.5,0 ; 0,-0.5 0,0.5 ; -1.085,-1.085 -1.085,1.085 1.085,1.085 1.085,-1.085 -1.085,-1.085
3D body: height 0.68, standoff 0, extent -0.984,-0.984 0.984,0.984